# EAGLE library part TDA2613 (library Audio-Power-amlifier V.2.0)
6 W hi-fi audio power amplifier Philips Semiconductors
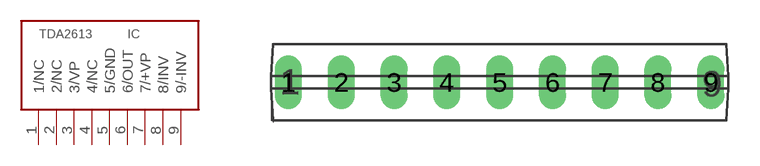
[diagram p106: symbol with the pads of SOT110-1; footprint SOT110-1]

Designator prefix IC

## TDA2613  [SOT110-1]
1  1/NC  nc
2  2/NC  nc
3  3/VP  in
4  4/NC  nc
5  5/GND  pwr
6  6/OUT  out
7  7/+VP  pwr
8  8/INV  in
9  9/-INV  in

## Footprint SOT110-1 (pad centres in mm)
SIL9MPF: plastic single in-line medium power package with fin; 9 leads
drill 0.8 long: 1 -10.16,0; 2 -7.62,0; 3 -5.08,0; 4 -2.54,0; 5 0,0; 6 2.54,0; 7 5.08,0; 8 7.62,0; 9 10.16,0